# Altium footprint library PHOENIX_1843091.PcbLib: 1 footprints
Each footprint in its own frame and in the unit in brackets; x right, y up, seen from the top. Pads: shape width x height; smd on the part's side, far side on the other; paste and mask are expansions set on the pad; w line width, h text height; cw(c..) or ccw(c..) is an arc to the next point about the centre after c.
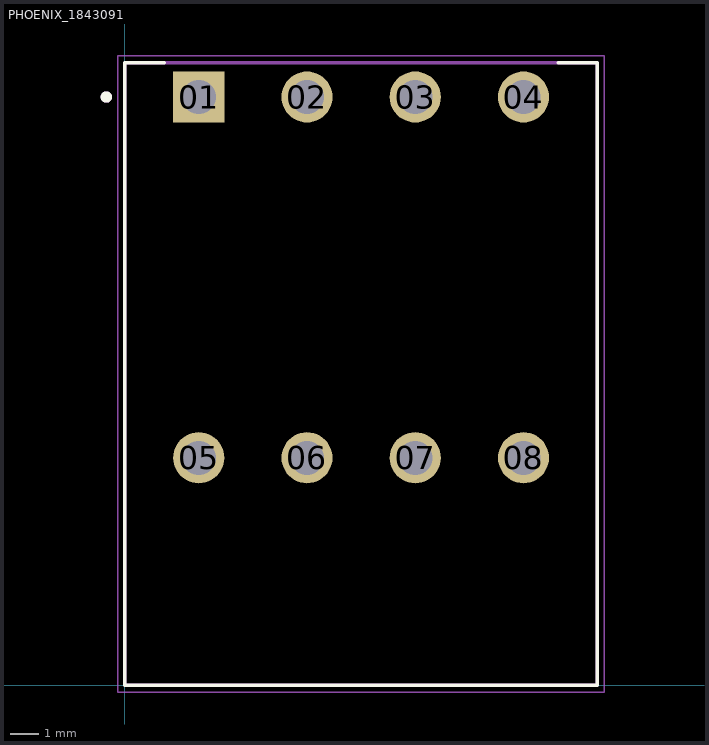
[diagram p0: the footprint, top view; thin cyan lines are the x and y axes]

## PHOENIX_1843091 [mm]
pads (8):
  rect 1.8x1.8 / inner round 1.8 / far side rect 1.8x1.8 hole 1.2: 01(2.6,20.7)
  round 1.8 hole 1.2: 02(6.41,20.7) 03(10.22,20.7) 04(14.03,20.7) 05(2.6,8) 06(6.41,8) 07(10.22,8) 08(14.03,8)
Top Overlay:
  circle w0.2: c-0.65,20.7 r0.1
  lines w0.127: 1.38,21.9 0,21.9 0,0 16.63,0 16.63,21.9 15.25,21.9
Mechanical 13:
  circle w0.2: c-0.65,20.7 r0.1
  lines w0.127: 0,0 16.63,0 16.63,21.9 0,21.9 0,0
Mechanical 15:
  lines w0.05: -0.25,-0.25 16.88,-0.25 16.88,22.15 -0.25,22.15 -0.25,-0.25
3D body "1843091.stp": height 22.69, standoff -3.5, extent -0.046,-0.03 16.584,22